# EAGLE library part ATMEGA328P-PU (library ATMEGA328P-PU)
MICROCHIP - ATMEGA328P-PU. - MICROCONTROLLER MCU, 8 BIT, ATMEGA, 20MHZ, DIP-28 Source: Datasheet <http://ww1.microchip.com/downloads/en/DeviceDoc/Atmel-42735-8-bit-AVR-Microcontroller-ATmega328-328P_Datasheet.pdf>
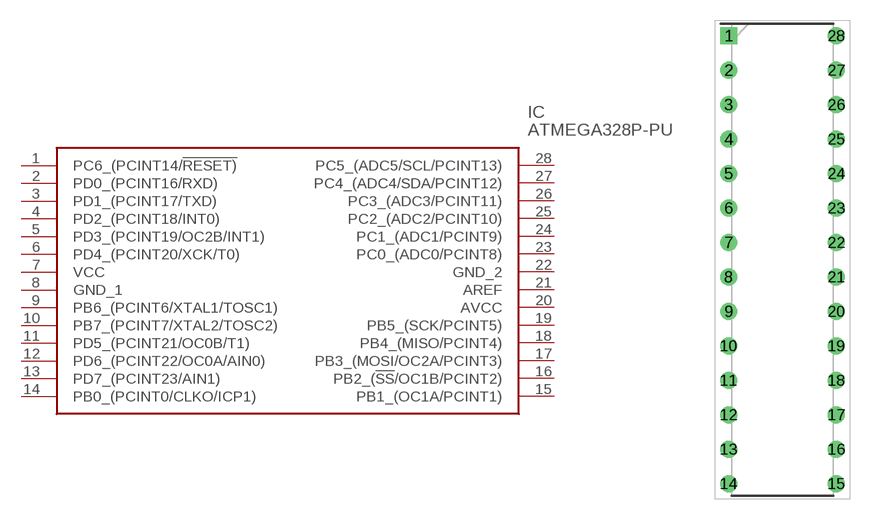
[diagram p0: symbol with the pads of DIP794W53P254L3467H457Q28N; footprint DIP794W53P254L3467H457Q28N]

Designator prefix IC

## ATMEGA328P-PU (Description: MICROCHIP - ATMEGA328P-PU. - MICROCONTROLLER MCU, 8 BIT, ATMEGA, 20MHZ, DIP-28; Height: 4.572mm; Manufacturer_Name: Microchip; Manufacturer_Part_Number: ATMEGA328P-PU; Mouser_Part_Number: 556-ATMEGA328P-PU; Mouser_Price-Stock: https://www.mouser.co.uk/ProductDetail/Microchip-Technology-Atmel/ATMEGA328P-PU?qs=K8BHR703ZXguOQv3sKbWcg%3D%3D)  [DIP794W53P254L3467H457Q28N]
1  PC6_(PCINT14/!RESET)
2  PD0_(PCINT16/RXD)
3  PD1_(PCINT17/TXD)
4  PD2_(PCINT18/INT0)
5  PD3_(PCINT19/OC2B/INT1)
6  PD4_(PCINT20/XCK/T0)
7  VCC
8  GND_1
9  PB6_(PCINT6/XTAL1/TOSC1)
10  PB7_(PCINT7/XTAL2/TOSC2)
11  PD5_(PCINT21/OC0B/T1)
12  PD6_(PCINT22/OC0A/AIN0)
13  PD7_(PCINT23/AIN1)
14  PB0_(PCINT0/CLKO/ICP1)
15  PB1_(OC1A/PCINT1)
16  PB2_(!SS!/OC1B/PCINT2)
17  PB3_(MOSI/OC2A/PCINT3)
18  PB4_(MISO/PCINT4)
19  PB5_(SCK/PCINT5)
20  AVCC
21  AREF
22  GND_2
23  PC0_(ADC0/PCINT8)
24  PC1_(ADC1/PCINT9)
25  PC2_(ADC2/PCINT10)
26  PC3_(ADC3/PCINT11)
27  PC4_(ADC4/SDA/PCINT12)
28  PC5_(ADC5/SCL/PCINT13)

## Footprint DIP794W53P254L3467H457Q28N (pad centres in mm)
28P3 7.62 row pitch
drill 0.733 pad 1.133 square: 1 -3.969,16.51
drill 0.733 pad 1.133: 2 -3.969,13.97; 3 -3.969,11.43; 4 -3.969,8.89; 5 -3.969,6.35; 6 -3.969,3.81; 7 -3.969,1.27; 8 -3.969,-1.27; 9 -3.969,-3.81; 10 -3.969,-6.35; 11 -3.969,-8.89; 12 -3.969,-11.43; 13 -3.969,-13.97; 14 -3.969,-16.51; 15 3.969,-16.51; 16 3.969,-13.97; 17 3.969,-11.43; 18 3.969,-8.89; 19 3.969,-6.35; 20 3.969,-3.81; 21 3.969,-1.27; 22 3.969,1.27; 23 3.969,3.81; 24 3.969,6.35; 25 3.969,8.89; 26 3.969,11.43; 27 3.969,13.97; 28 3.969,16.51